# Altium integrated library TI Amplifiers and Linear Operational Amplifier Low Power Amplifier.IntLib: 12 symbols
Pins are listed as number, name and electrical type; pins without a type are passive.

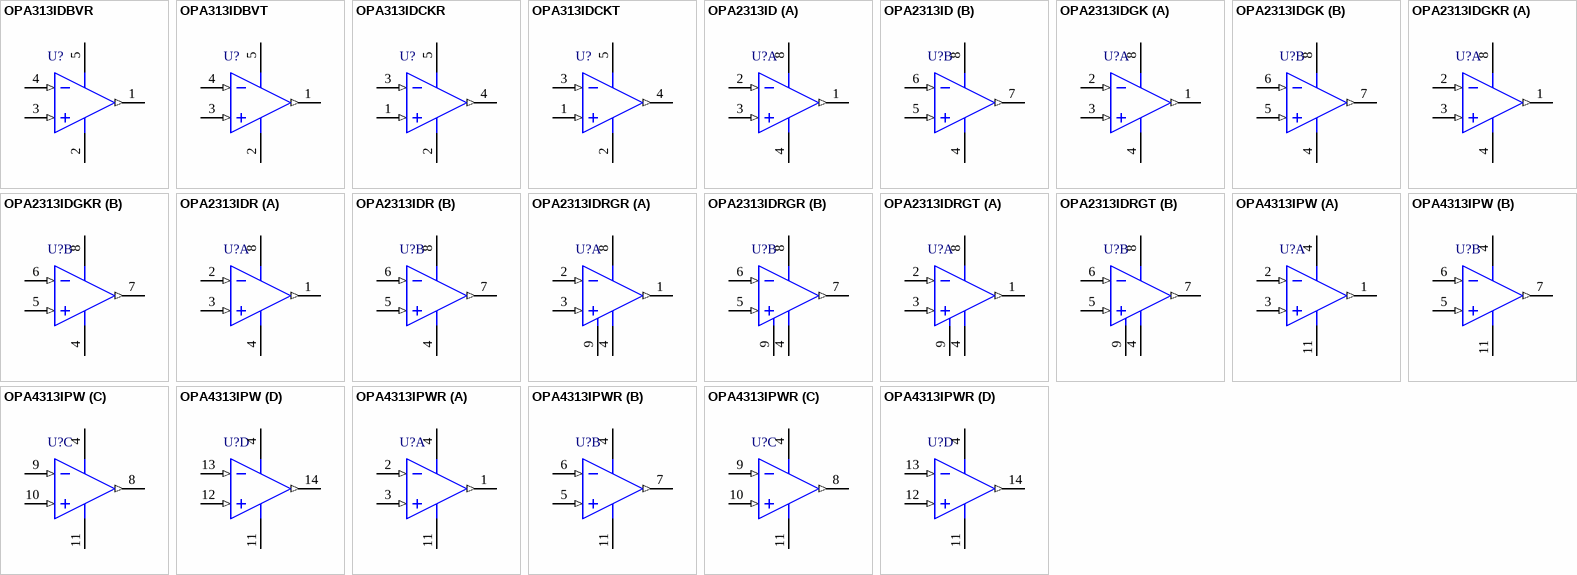
[diagram p0: symbols OPA313IDBVR to OPA4313IPWR]

## OPA313IDBVR
designator U?
1-MHz, Micropower, Low-Noise, Rail-to-Rail I/O Operational Amplifier, 1.8 to 5.5 V, -40 to 125 degC, 5-pin SOT23 (DBV5), Green (RoHS & no Sb/Br); Manufacturer: Texas Instruments; PartNumber: OPA313IDBVR; CMRR(Min)(dB): 70; GBW(Typ)(MHz): 1; Iq per channel(Max)(mA): 0.06; Offset Drift(Typ)(uV/C): 2; Packing: LARGE T&R; Rating: Catalog; Slew Rate(Typ)(V/us): 0.5; SubFamily: Low Input Bias Current Amp (<=10pA), Low Power Amp (<=500uA); Total Supply Voltage(Max)(+5V is 5, +/-5V is 10): 5.5; Total Supply Voltage(Min)(+5V is 5, +/-5V is 10): 1.8; Vio (25C)(Max)(mV): 2.5; DatasheetVersion: SBOS649C; PackageVersion: 4073253-4/K, 03/2006; PackageReference: DBV5; PackageDescription: 5-Pin Plastic Small Outline, Body 1.6 x 2.9 mm, Pitch 0.95 mm; Supplier 1: Digi-Key; Supplier Part Number 1: 296-35607-2-ND; Supplier 2: Digi-Key; Supplier Part Number 2: 296-35607-1-ND; Supplier 3: Digi-Key; Supplier Part Number 3: 296-35607-6-ND; Supplier 4: Newark; Supplier Part Number 4: 55W7047; Supplier 5: Mouser; Supplier Part Number 5: 595-OPA313IDBVR; Eco-Plan: Green (RoHS & no Sb/Br); Number of Channels: 1; Mounting Technology: Surface Mount; Code_JEDEC: MO-178; ComponentLink1Description: Manufacturer URL; ComponentLink1URL: http://www.ti.com/; ComponentLink2Description: Datasheet; ComponentLink2URL: http://www.ti.com/lit/ds/symlink/opa313.pdf; ComponentLink3Description: Package Specification; ComponentLink3URL: http://www.ti.com/litv/pdf/mpds018i
footprint TI-DBV5_N (SOT23, 5-Leads, Body 2.9x1.6mm, Pitch 0.95mm, IPC Medium Density)
footprint TI-DBV5_L (SOT23, 5-Leads, Body 2.9x1.6mm, Pitch 0.95mm, IPC High Density)
footprint TI-DBV5_M (SOT23, 5-Leads, Body 2.9x1.6mm, Pitch 0.95mm, IPC Low Density)
pins: 1 OUT (out), 2 V- (power), 3 IN+ (in), 4 IN- (in), 5 V+ (power)

## OPA313IDBVT
designator U?
1-MHz, Micropower, Low-Noise, Rail-to-Rail I/O Operational Amplifier, 1.8 to 5.5 V, -40 to 125 degC, 5-pin SOT23 (DBV5), Green (RoHS & no Sb/Br); Manufacturer: Texas Instruments; PartNumber: OPA313IDBVT; CMRR(Min)(dB): 70; GBW(Typ)(MHz): 1; Iq per channel(Max)(mA): 0.06; Offset Drift(Typ)(uV/C): 2; Packing: SMALL T&R; Rating: Catalog; Slew Rate(Typ)(V/us): 0.5; SubFamily: Low Input Bias Current Amp (<=10pA), Low Power Amp (<=500uA); Total Supply Voltage(Max)(+5V is 5, +/-5V is 10): 5.5; Total Supply Voltage(Min)(+5V is 5, +/-5V is 10): 1.8; Vio (25C)(Max)(mV): 2.5; DatasheetVersion: SBOS649C; PackageVersion: 4073253-4/K, 03/2006; PackageReference: DBV5; PackageDescription: 5-Pin Plastic Small Outline, Body 1.6 x 2.9 mm, Pitch 0.95 mm; Supplier 1: Digi-Key; Supplier Part Number 1: 296-35659-2-ND; Supplier 2: Digi-Key; Supplier Part Number 2: 296-35659-1-ND; Supplier 3: Digi-Key; Supplier Part Number 3: 296-35659-6-ND; Supplier 4: Farnell; Supplier Part Number 4: 2307925; Supplier 5: Newark; Supplier Part Number 5: 55W7048; Supplier 6: Newark; Supplier Part Number 6: 70W0128; Supplier 7: Mouser; Supplier Part Number 7: 595-OPA313IDBVT; Eco-Plan: Green (RoHS & no Sb/Br); Number of Channels: 1; Mounting Technology: Surface Mount; Code_JEDEC: MO-178; ComponentLink1Description: Manufacturer URL; ComponentLink1URL: http://www.ti.com/; ComponentLink2Description: Datasheet; ComponentLink2URL: http://www.ti.com/lit/ds/symlink/opa313.pdf; ComponentLink3Description: Package Specification; ComponentLink3URL: http://www.ti.com/litv/pdf/mpds018i
footprint TI-DBV5_N (SOT23, 5-Leads, Body 2.9x1.6mm, Pitch 0.95mm, IPC Medium Density)
footprint TI-DBV5_L (SOT23, 5-Leads, Body 2.9x1.6mm, Pitch 0.95mm, IPC High Density)
footprint TI-DBV5_M (SOT23, 5-Leads, Body 2.9x1.6mm, Pitch 0.95mm, IPC Low Density)
pins: 1 OUT (out), 2 V- (power), 3 IN+ (in), 4 IN- (in), 5 V+ (power)

## OPA313IDCKR
designator U?
1-MHz, Micropower, Low-Noise, Rail-to-Rail I/O Operational Amplifier, 1.8 to 5.5 V, -40 to 125 degC, 5-pin SOT23 (DCK5), Green (RoHS & no Sb/Br); Manufacturer: Texas Instruments; PartNumber: OPA313IDCKR; CMRR(Min)(dB): 70; GBW(Typ)(MHz): 1; Iq per channel(Max)(mA): 0.06; Offset Drift(Typ)(uV/C): 2; Packing: LARGE T&R; Rating: Catalog; Slew Rate(Typ)(V/us): 0.5; SubFamily: Low Input Bias Current Amp (<=10pA), Low Power Amp (<=500uA); Total Supply Voltage(Max)(+5V is 5, +/-5V is 10): 5.5; Total Supply Voltage(Min)(+5V is 5, +/-5V is 10): 1.8; Vio (25C)(Max)(mV): 2.5; DatasheetVersion: SBOS649C; PackageVersion: 4093553-3/G, 01/2007; PackageReference: DCK5; PackageDescription: 5-Pin Plastic Small Outline, Body 2 x 1.25 mm, Pitch 0.65 mm; Supplier 1: Digi-Key; Supplier Part Number 1: OPA313IDCKR-ND; Supplier 2: Newark; Supplier Part Number 2: 63W8550; Supplier 3: Mouser; Supplier Part Number 3: 595-OPA313IDCKR; Eco-Plan: Green (RoHS & no Sb/Br); Number of Channels: 1; Mounting Technology: Surface Mount; Code_JEDEC: MO-203; ComponentLink1Description: Manufacturer URL; ComponentLink1URL: http://www.ti.com/; ComponentLink2Description: Datasheet; ComponentLink2URL: http://www.ti.com/lit/ds/symlink/opa313.pdf; ComponentLink3Description: Package Specification; ComponentLink3URL: http://www.ti.com/litv/pdf/mpds025f
footprint TI-DCK5_V (SOT23, 5-Leads, Body 2x1.25mm, Pitch 0.65mm)
pins: 1 IN+ (in), 2 V- (power), 3 IN- (in), 4 OUT (out), 5 V+ (power)

## OPA313IDCKT
designator U?
1-MHz, Micropower, Low-Noise, Rail-to-Rail I/O Operational Amplifier, 1.8 to 5.5 V, -40 to 125 degC, 5-pin SOT23 (DCK5), Green (RoHS & no Sb/Br); Manufacturer: Texas Instruments; PartNumber: OPA313IDCKT; CMRR(Min)(dB): 70; GBW(Typ)(MHz): 1; Iq per channel(Max)(mA): 0.06; Offset Drift(Typ)(uV/C): 2; Packing: SMALL T&R; Rating: Catalog; Slew Rate(Typ)(V/us): 0.5; SubFamily: Low Input Bias Current Amp (<=10pA), Low Power Amp (<=500uA); Total Supply Voltage(Max)(+5V is 5, +/-5V is 10): 5.5; Total Supply Voltage(Min)(+5V is 5, +/-5V is 10): 1.8; Vio (25C)(Max)(mV): 2.5; DatasheetVersion: SBOS649C; PackageVersion: 4093553-3/G, 01/2007; PackageReference: DCK5; PackageDescription: 5-Pin Plastic Small Outline, Body 2 x 1.25 mm, Pitch 0.65 mm; Supplier 1: Digi-Key; Supplier Part Number 1: OPA313IDCKT-ND; Supplier 2: Newark; Supplier Part Number 2: 63W8551; Supplier 3: Mouser; Supplier Part Number 3: 595-OPA313IDCKT; Eco-Plan: Green (RoHS & no Sb/Br); Number of Channels: 1; Mounting Technology: Surface Mount; Code_JEDEC: MO-203; ComponentLink1Description: Manufacturer URL; ComponentLink1URL: http://www.ti.com/; ComponentLink2Description: Datasheet; ComponentLink2URL: http://www.ti.com/lit/ds/symlink/opa313.pdf; ComponentLink3Description: Package Specification; ComponentLink3URL: http://www.ti.com/litv/pdf/mpds025f
footprint TI-DCK5_V (SOT23, 5-Leads, Body 2x1.25mm, Pitch 0.65mm)
pins: 1 IN+ (in), 2 V- (power), 3 IN- (in), 4 OUT (out), 5 V+ (power)

## OPA2313ID
designator U?
1-MHz, Micropower, Low-Noise, Rail-to-Rail I/O Operational Amplifier, 1.8 to 5.5 V, -40 to 125 degC, 8-pin SOIC (D8), Green (RoHS & no Sb/Br); Manufacturer: Texas Instruments; PartNumber: OPA2313ID; CMRR(Min)(dB): 70; GBW(Typ)(MHz): 1; Iq per channel(Max)(mA): 0.06; Number of Channels: 2; Packing: TUBE; Rating: Catalog; Slew Rate(Typ)(V/us): 0.5; SubFamily: Low Input Bias Current Amp (<=10pA), Low Power Amp (<=500uA); Total Supply Voltage(Max)(+5V is 5, +/-5V is 10): 5.5; Total Supply Voltage(Min)(+5V is 5, +/-5V is 10): 1.8; Vio (25C)(Max)(mV): 2.5; DatasheetVersion: SBOS649C; PackageVersion: 4040047-3/M, 06/2011; PackageReference: D8; PackageDescription: 8-Pin Plastic Small Outline, Body 4.9 x 3.9 mm, Pitch 1.27 mm; Supplier 1: Digi-Key; Supplier Part Number 1: 296-35005-ND; Supplier 2: Newark; Supplier Part Number 2: 47W7351; Supplier 3: Mouser; Supplier Part Number 3: 595-OPA2313ID; Eco-Plan: Green (RoHS & no Sb/Br); Offset Drift(Typ)(uV/C): 2; Mounting Technology: Surface Mount; Code_JEDEC: MS-012; ComponentLink1Description: Manufacturer URL; ComponentLink1URL: http://www.ti.com/; ComponentLink2Description: Datasheet; ComponentLink2URL: http://www.ti.com/lit/ds/symlink/opa2313.pdf; ComponentLink3Description: Package Specification; ComponentLink3URL: http://www.ti.com/litv/pdf/msoi002j
footprint TI-D8_N (SOIC, 8-Leads, Body 4.9x3.9mm, Pitch 1.27mm, IPC Medium Density)
footprint TI-D8_L (SOIC, 8-Leads, Body 4.9x3.9mm, Pitch 1.27mm, IPC High Density)
footprint TI-D8_M (SOIC, 8-Leads, Body 4.9x3.9mm, Pitch 1.27mm, IPC Low Density)
pins on every part: 4 V- (power), 8 V+ (power)
part A pins: 1 OUT A (out), 2 IN A- (in), 3 IN A+ (in)
part B pins: 5 IN B+ (in), 6 IN B- (in), 7 OUT B (out)

## OPA2313IDGK
designator U?
1-MHz, Micropower, Low-Noise, Rail-to-Rail I/O Operational Amplifier, 1.8 to 5.5 V, -40 to 125 degC, 8-pin SOP (DGK8), Green (RoHS & no Sb/Br); Manufacturer: Texas Instruments; PartNumber: OPA2313IDGK; CMRR(Min)(dB): 70; GBW(Typ)(MHz): 1; Iq per channel(Max)(mA): 0.06; Number of Channels: 2; Packing: TUBE; Rating: Catalog; Slew Rate(Typ)(V/us): 0.5; SubFamily: Low Input Bias Current Amp (<=10pA), Low Power Amp (<=500uA); Total Supply Voltage(Max)(+5V is 5, +/-5V is 10): 5.5; Total Supply Voltage(Min)(+5V is 5, +/-5V is 10): 1.8; Vio (25C)(Max)(mV): 2.5; DatasheetVersion: SBOS649C; PackageVersion: 4073329/E, 05/2006; PackageReference: DGK8; PackageDescription: 8-Pin Thin Small Outline, Body 3 x 3 mm, Pitch 0.65 mm; Supplier 1: Digi-Key; Supplier Part Number 1: 296-35004-ND; Supplier 2: Newark; Supplier Part Number 2: 47W7352; Supplier 3: Mouser; Supplier Part Number 3: 595-OPA2313IDGK; Eco-Plan: Green (RoHS & no Sb/Br); Offset Drift(Typ)(uV/C): 2; Mounting Technology: Surface Mount; Code_JEDEC: MO-187; ComponentLink1Description: Manufacturer URL; ComponentLink1URL: http://www.ti.com/; ComponentLink2Description: Datasheet; ComponentLink2URL: http://www.ti.com/lit/ds/symlink/opa2313.pdf; ComponentLink3Description: Package Specification; ComponentLink3URL: http://www.ti.com/litv/pdf/mpds028d
footprint TI-DGK8_N (SOP, 8-Leads, Body 3x3mm, Pitch 0.65mm, IPC Medium Density)
footprint TI-DGK8_L (SOP, 8-Leads, Body 3x3mm, Pitch 0.65mm, IPC High Density)
footprint TI-DGK8_M (SOP, 8-Leads, Body 3x3mm, Pitch 0.65mm, IPC Low Density)
pins on every part: 4 V- (power), 8 V+ (power)
part A pins: 1 OUT A (out), 2 IN A- (in), 3 IN A+ (in)
part B pins: 5 IN B+ (in), 6 IN B- (in), 7 OUT B (out)

## OPA2313IDGKR
designator U?
1-MHz, Micropower, Low-Noise, Rail-to-Rail I/O Operational Amplifier, 1.8 to 5.5 V, -40 to 125 degC, 8-pin SOP (DGK8), Green (RoHS & no Sb/Br); Manufacturer: Texas Instruments; PartNumber: OPA2313IDGKR; CMRR(Min)(dB): 70; GBW(Typ)(MHz): 1; Iq per channel(Max)(mA): 0.06; Number of Channels: 2; Packing: LARGE T&R; Rating: Catalog; Slew Rate(Typ)(V/us): 0.5; SubFamily: Low Input Bias Current Amp (<=10pA), Low Power Amp (<=500uA); Total Supply Voltage(Max)(+5V is 5, +/-5V is 10): 5.5; Total Supply Voltage(Min)(+5V is 5, +/-5V is 10): 1.8; Vio (25C)(Max)(mV): 2.5; DatasheetVersion: SBOS649C; PackageVersion: 4073329/E, 05/2006; PackageReference: DGK8; PackageDescription: 8-Pin Thin Small Outline, Body 3 x 3 mm, Pitch 0.65 mm; Supplier 1: Digi-Key; Supplier Part Number 1: OPA2313IDGKR-ND; Supplier 2: Newark; Supplier Part Number 2: 47W7353; Supplier 3: Mouser; Supplier Part Number 3: 595-OPA2313IDGKR; Eco-Plan: Green (RoHS & no Sb/Br); Offset Drift(Typ)(uV/C): 2; Mounting Technology: Surface Mount; Code_JEDEC: MO-187; ComponentLink1Description: Manufacturer URL; ComponentLink1URL: http://www.ti.com/; ComponentLink2Description: Datasheet; ComponentLink2URL: http://www.ti.com/lit/ds/symlink/opa2313.pdf; ComponentLink3Description: Package Specification; ComponentLink3URL: http://www.ti.com/litv/pdf/mpds028d
footprint TI-DGK8_N (SOP, 8-Leads, Body 3x3mm, Pitch 0.65mm, IPC Medium Density)
footprint TI-DGK8_L (SOP, 8-Leads, Body 3x3mm, Pitch 0.65mm, IPC High Density)
footprint TI-DGK8_M (SOP, 8-Leads, Body 3x3mm, Pitch 0.65mm, IPC Low Density)
pins on every part: 4 V- (power), 8 V+ (power)
part A pins: 1 OUT A (out), 2 IN A- (in), 3 IN A+ (in)
part B pins: 5 IN B+ (in), 6 IN B- (in), 7 OUT B (out)

## OPA2313IDR
designator U?
1-MHz, Micropower, Low-Noise, Rail-to-Rail I/O Operational Amplifier, 1.8 to 5.5 V, -40 to 125 degC, 8-pin SOIC (D8), Green (RoHS & no Sb/Br); Manufacturer: Texas Instruments; PartNumber: OPA2313IDR; CMRR(Min)(dB): 70; GBW(Typ)(MHz): 1; Iq per channel(Max)(mA): 0.06; Number of Channels: 2; Packing: LARGE T&R; Rating: Catalog; Slew Rate(Typ)(V/us): 0.5; SubFamily: Low Input Bias Current Amp (<=10pA), Low Power Amp (<=500uA); Total Supply Voltage(Max)(+5V is 5, +/-5V is 10): 5.5; Total Supply Voltage(Min)(+5V is 5, +/-5V is 10): 1.8; Vio (25C)(Max)(mV): 2.5; DatasheetVersion: SBOS649C; PackageVersion: 4040047-3/M, 06/2011; PackageReference: D8; PackageDescription: 8-Pin Plastic Small Outline, Body 4.9 x 3.9 mm, Pitch 1.27 mm; Supplier 1: Digi-Key; Supplier Part Number 1: OPA2313IDR-ND; Supplier 2: Newark; Supplier Part Number 2: 47W7354; Supplier 3: Mouser; Supplier Part Number 3: 595-OPA2313IDR; Eco-Plan: Green (RoHS & no Sb/Br); Offset Drift(Typ)(uV/C): 2; Mounting Technology: Surface Mount; Code_JEDEC: MS-012; ComponentLink1Description: Manufacturer URL; ComponentLink1URL: http://www.ti.com/; ComponentLink2Description: Datasheet; ComponentLink2URL: http://www.ti.com/lit/ds/symlink/opa2313.pdf; ComponentLink3Description: Package Specification; ComponentLink3URL: http://www.ti.com/litv/pdf/msoi002j
footprint TI-D8_N (SOIC, 8-Leads, Body 4.9x3.9mm, Pitch 1.27mm, IPC Medium Density)
footprint TI-D8_L (SOIC, 8-Leads, Body 4.9x3.9mm, Pitch 1.27mm, IPC High Density)
footprint TI-D8_M (SOIC, 8-Leads, Body 4.9x3.9mm, Pitch 1.27mm, IPC Low Density)
pins on every part: 4 V- (power), 8 V+ (power)
part A pins: 1 OUT A (out), 2 IN A- (in), 3 IN A+ (in)
part B pins: 5 IN B+ (in), 6 IN B- (in), 7 OUT B (out)

## OPA2313IDRGR
designator U?
1-MHz, Micropower, Low-Noise, Rail-to-Rail I/O Operational Amplifier, 1.8 to 5.5 V, -40 to 125 degC, 8-pin SON (DRG8), Green (RoHS & no Sb/Br); Manufacturer: Texas Instruments; PartNumber: OPA2313IDRGR; CMRR(Min)(dB): 70; GBW(Typ)(MHz): 1; Iq per channel(Max)(mA): 0.06; Number of Channels: 2; Packing: LARGE T&R; Rating: Catalog; Slew Rate(Typ)(V/us): 0.5; SubFamily: Low Input Bias Current Amp (<=10pA), Low Power Amp (<=500uA); Total Supply Voltage(Max)(+5V is 5, +/-5V is 10): 5.5; Total Supply Voltage(Min)(+5V is 5, +/-5V is 10): 1.8; Vio (25C)(Max)(mV): 2.5; DatasheetVersion: SBOS649C; PackageVersion: 4205379/C, 12/2010; PackageReference: DRG8-2000X1200TP; PackageDescription: 8-Pin Plastic Small Outline, Body 3 x 3 mm, Pitch 0.5 mm; Supplier 1: Digi-Key; Supplier Part Number 1: OPA2313IDRGR-ND; Supplier 2: Newark; Supplier Part Number 2: 55W7045; Supplier 3: Mouser; Supplier Part Number 3: 595-OPA2313IDRGR; Eco-Plan: Green (RoHS & no Sb/Br); Offset Drift(Typ)(uV/C): 2; Mounting Technology: Surface Mount; Code_JEDEC: MO-229; ComponentLink1Description: Manufacturer URL; ComponentLink1URL: http://www.ti.com/; ComponentLink2Description: Datasheet; ComponentLink2URL: http://www.ti.com/lit/ds/symlink/opa2313.pdf; ComponentLink3Description: Package Specification; ComponentLink3URL: http://www.ti.com/litv/pdf/mpds151b
footprint TI-DRG8-2000X1200TP_V (SON, 8-Leads, Body 3x3mm, Pitch 0.5mm, Thermal Pad 1.2x2mm)
pins on every part: 4 V- (power), 8 V+ (power), 9 EP (power)
part A pins: 1 OUT A (out), 2 IN A- (in), 3 IN A+ (in)
part B pins: 5 IN B+ (in), 6 IN B- (in), 7 OUT B (out)

## OPA2313IDRGT
designator U?
1-MHz, Micropower, Low-Noise, Rail-to-Rail I/O Operational Amplifier, 1.8 to 5.5 V, -40 to 125 degC, 8-pin SON (DRG8), Green (RoHS & no Sb/Br); Manufacturer: Texas Instruments; PartNumber: OPA2313IDRGT; CMRR(Min)(dB): 70; GBW(Typ)(MHz): 1; Iq per channel(Max)(mA): 0.06; Number of Channels: 2; Packing: SMALL T&R; Rating: Catalog; Slew Rate(Typ)(V/us): 0.5; SubFamily: Low Input Bias Current Amp (<=10pA), Low Power Amp (<=500uA); Total Supply Voltage(Max)(+5V is 5, +/-5V is 10): 5.5; Total Supply Voltage(Min)(+5V is 5, +/-5V is 10): 1.8; Vio (25C)(Max)(mV): 2.5; DatasheetVersion: SBOS649C; PackageVersion: 4205379/C, 12/2010; PackageReference: DRG8-2000X1200TP; PackageDescription: 8-Pin Plastic Small Outline, Body 3 x 3 mm, Pitch 0.5 mm; Supplier 1: Digi-Key; Supplier Part Number 1: 296-35658-2-ND; Supplier 2: Digi-Key; Supplier Part Number 2: 296-35658-1-ND; Supplier 3: Digi-Key; Supplier Part Number 3: 296-35658-6-ND; Supplier 4: Farnell; Supplier Part Number 4: 2307921; Supplier 5: Newark; Supplier Part Number 5: 55W7046; Supplier 6: Mouser; Supplier Part Number 6: 595-OPA2313IDRGT; Eco-Plan: Green (RoHS & no Sb/Br); Offset Drift(Typ)(uV/C): 2; Mounting Technology: Surface Mount; Code_JEDEC: MO-229; ComponentLink1Description: Manufacturer URL; ComponentLink1URL: http://www.ti.com/; ComponentLink2Description: Datasheet; ComponentLink2URL: http://www.ti.com/lit/ds/symlink/opa2313.pdf; ComponentLink3Description: Package Specification; ComponentLink3URL: http://www.ti.com/litv/pdf/mpds151b
footprint TI-DRG8-2000X1200TP_V (SON, 8-Leads, Body 3x3mm, Pitch 0.5mm, Thermal Pad 1.2x2mm)
pins on every part: 4 V- (power), 8 V+ (power), 9 EP (power)
part A pins: 1 OUT A (out), 2 IN A- (in), 3 IN A+ (in)
part B pins: 5 IN B+ (in), 6 IN B- (in), 7 OUT B (out)

## OPA4313IPW
designator U?
1-MHz, Micropower, Low-Noise, Rail-to-Rail I/O Operational Amplifier, 1.8 to 5.5 V, -40 to 125 degC, 14-pin SOP (PW14), Green (RoHS & no Sb/Br); Manufacturer: Texas Instruments; PartNumber: OPA4313IPW; CMRR(Min)(dB): 70; GBW(Typ)(MHz): 1; Iq per channel(Max)(mA): 0.06; Number of Channels: 2; Packing: TUBE; Rating: Catalog; Slew Rate(Typ)(V/us): 0.5; SubFamily: Low Input Bias Current Amp (<=10pA), Low Power Amp (<=500uA); Total Supply Voltage(Max)(+5V is 5, +/-5V is 10): 5.5; Total Supply Voltage(Min)(+5V is 5, +/-5V is 10): 1.8; Vio (25C)(Max)(mV): 2.5; DatasheetVersion: SBOS649C; PackageVersion: 4040064-3/G, 02/2011; PackageReference: PW14; PackageDescription: 14-Pin Plastic Small Outline, Body 5 x 4.4 mm, Pitch 0.65 mm; Supplier 1: Digi-Key; Supplier Part Number 1: OPA4313IPW-ND; Supplier 2: Newark; Supplier Part Number 2: 67W0113; Supplier 3: Mouser; Supplier Part Number 3: 595-OPA4313IPW; Eco-Plan: Green (RoHS & no Sb/Br); Offset Drift(Typ)(uV/C): 2; Mounting Technology: Surface Mount; Code_JEDEC: MO-153; ComponentLink1Description: Manufacturer URL; ComponentLink1URL: http://www.ti.com/; ComponentLink2Description: Datasheet; ComponentLink2URL: http://www.ti.com/lit/ds/symlink/opa4313.pdf; ComponentLink3Description: Package Specification; ComponentLink3URL: http://www.ti.com/litv/pdf/mpds360
footprint TI-PW14_N (SOP, 14-Leads, Body 5x4.4mm, Pitch 0.65mm, IPC Medium Density)
footprint TI-PW14_L (SOP, 14-Leads, Body 5x4.4mm, Pitch 0.65mm, IPC High Density)
footprint TI-PW14_M (SOP, 14-Leads, Body 5x4.4mm, Pitch 0.65mm, IPC Low Density)
pins on every part: 4 V+ (power), 11 V- (power)
part A pins: 1 OUT A (out), 2 IN A- (in), 3 IN A+ (in)
part B pins: 5 IN B+ (in), 6 IN B- (in), 7 OUT B (out)
part C pins: 8 OUT C (out), 9 IN C- (in), 10 IN C+ (in)
part D pins: 12 IN D+ (in), 13 IN D- (in), 14 OUT D (out)

## OPA4313IPWR
designator U?
1-MHz, Micropower, Low-Noise, Rail-to-Rail I/O Operational Amplifier, 1.8 to 5.5 V, -40 to 125 degC, 14-pin SOP (PW14), Green (RoHS & no Sb/Br); Manufacturer: Texas Instruments; PartNumber: OPA4313IPWR; CMRR(Min)(dB): 70; GBW(Typ)(MHz): 1; Iq per channel(Max)(mA): 0.06; Number of Channels: 2; Packing: LARGE T&R; Rating: Catalog; Slew Rate(Typ)(V/us): 0.5; SubFamily: Low Input Bias Current Amp (<=10pA), Low Power Amp (<=500uA); Total Supply Voltage(Max)(+5V is 5, +/-5V is 10): 5.5; Total Supply Voltage(Min)(+5V is 5, +/-5V is 10): 1.8; Vio (25C)(Max)(mV): 2.5; DatasheetVersion: SBOS649C; PackageVersion: 4040064-3/G, 02/2011; PackageReference: PW14; PackageDescription: 14-Pin Plastic Small Outline, Body 5 x 4.4 mm, Pitch 0.65 mm; Supplier 1: Digi-Key; Supplier Part Number 1: 296-35691-2-ND; Supplier 2: Digi-Key; Supplier Part Number 2: 296-35691-1-ND; Supplier 3: Digi-Key; Supplier Part Number 3: 296-35691-6-ND; Supplier 4: Newark; Supplier Part Number 4: 67W0114; Supplier 5: Mouser; Supplier Part Number 5: 595-OPA4313IPWR; Eco-Plan: Green (RoHS & no Sb/Br); Offset Drift(Typ)(uV/C): 2; Mounting Technology: Surface Mount; Code_JEDEC: MO-153; ComponentLink1Description: Manufacturer URL; ComponentLink1URL: http://www.ti.com/; ComponentLink2Description: Datasheet; ComponentLink2URL: http://www.ti.com/lit/ds/symlink/opa4313.pdf; ComponentLink3Description: Package Specification; ComponentLink3URL: http://www.ti.com/litv/pdf/mpds360
footprint TI-PW14_N (SOP, 14-Leads, Body 5x4.4mm, Pitch 0.65mm, IPC Medium Density)
footprint TI-PW14_L (SOP, 14-Leads, Body 5x4.4mm, Pitch 0.65mm, IPC High Density)
footprint TI-PW14_M (SOP, 14-Leads, Body 5x4.4mm, Pitch 0.65mm, IPC Low Density)
pins on every part: 4 V+ (power), 11 V- (power)
part A pins: 1 OUT A (out), 2 IN A- (in), 3 IN A+ (in)
part B pins: 5 IN B+ (in), 6 IN B- (in), 7 OUT B (out)
part C pins: 8 OUT C (out), 9 IN C- (in), 10 IN C+ (in)
part D pins: 12 IN D+ (in), 13 IN D- (in), 14 OUT D (out)